# Altium footprint library PCB_supply unit.PcbLib: 19 footprints (part 2 of 2)
Each footprint in its own frame and in the unit in brackets; x right, y up, seen from the top. Pads: shape width x height; smd on the part's side, far side on the other; paste and mask are expansions set on the pad; w line width, h text height; cw(c..) or ccw(c..) is an arc to the next point about the centre after c.
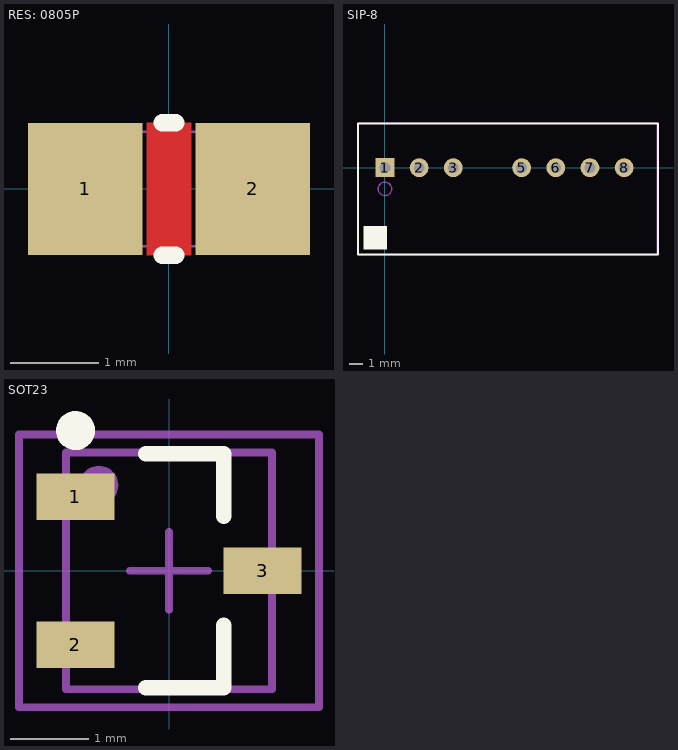
[diagram p1: the footprints below, top view; thin cyan lines are the x and y axes]

## RES: 0805P [mm] "small footprint"
height 0.55
pads (2):
  rect 1.3x1.5 smd: 1(-0.95,0) 2(0.95,0)
Top Layer:
  pour cut-out: -0.25,-0.75 -0.25,0.75 0.25,0.75 0.25,-0.75
Top Overlay:
  lines w0.2: -0.075,-0.75 0.075,-0.75 ; -0.075,0.75 0.075,0.75
Mechanical 1:
  lines w0.025: -1,-0.65 -1,0.65 1,0.65 1,-0.65 -1,-0.65
3D body "R-0805.STEP": height 0.6, standoff 0, extent -1,-0.625 1,0.625

## SIP-8 [mm] "SIP-8"
height 12.1
pads (7):
  rect 1.4x1.4 hole 0.8 mask+0.1: 1(0,0)
  round 1.4 hole 0.8 mask+0.1: 2(2.54,0) 3(5.08,0) 5(10.16,0) 6(12.7,0) 7(15.24,0) 8(17.78,0)
Top Overlay:
  rectangle: -1.599,-6.1 0.151,-4.35
  lines w0.15: -2.006,3.3 20.3,3.3 20.3,-6.45 -2,-6.45 -2,3.3
Mechanical 1:
  circle w0.1: c0,-1.575 r0.5
  lines w0.1: -2,-6.475 20.25,-6.475 20.25,3.3 -2,3.3 -2,-6.475
3D body "mdm2(3,5)-n.stp": height 12.1, standoff -3.5, extent -2.006,-6.503 20.294,3.297

## SOT23 [mm]
height 1.1
pads (4):
  rect 1x0.6 smd: 1(-1.2,0.95) 2(-1.2,-0.95) 3(1.2,0)
  round 0.5 on Mech1: ""(-0.9,1.1)
Top Overlay:
  circle w0.25: c-1.2,1.8 r0.125
  lines w0.2: -0.3,-1.5 0.7,-1.5 0.7,-0.7 ; -0.3,1.5 0.7,1.5 0.7,0.7
Mechanical 1:
  lines w0.1: -1.32,-1.52 1.32,-1.52 1.32,1.52 -1.32,1.52 -1.32,-1.52
Mechanical 15:
  lines w0.1: -0.5,0 0.5,0 ; 0,-0.5 0,0.5 ; -1.925,-1.75 -1.925,1.75 1.925,1.75 1.925,-1.75 -1.925,-1.75
3D body "SOT95P237X112-3N.step": height 1.12, standoff 0, extent -1.32,-1.52 1.32,1.52